# EAGLE library part OMRON-B3W-901X-2 (library DonB)
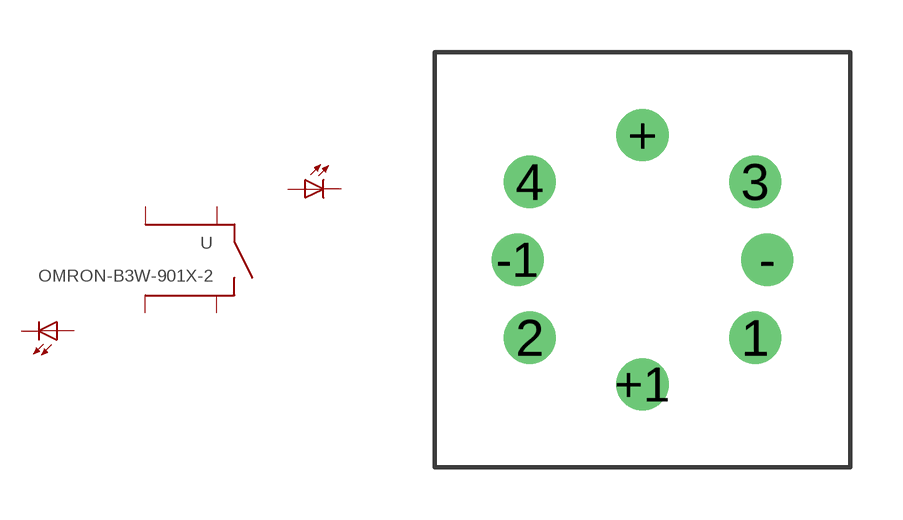
[diagram p4: symbol with the pads of OMRON-B3W-901X-2; footprint OMRON-B3W-901X-2]

Designator prefix -

## OMRON-B3W-901X-2  [OMRON-B3W-901X-2]
1  1
2  2
3  3
4  4
+  +  pas
+1  +1  pas
-  -  pas
-1  -1  pas

## Footprint OMRON-B3W-901X-2 (pad centres in mm)
drill 1: 1 3.25,-2.25; 2 -3.25,-2.25; 3 3.25,2.25; 4 -3.25,2.25; + 0,3.6; +1 0,-3.6; - 3.6,0; -1 -3.6,0